# Altium footprint library Al_Cap.PcbLib: 10 footprints
Each footprint in its own frame and in the unit in brackets; x right, y up, seen from the top. Pads: shape width x height; smd on the part's side, far side on the other; paste and mask are expansions set on the pad; w line width, h text height; cw(c..) or ccw(c..) is an arc to the next point about the centre after c.
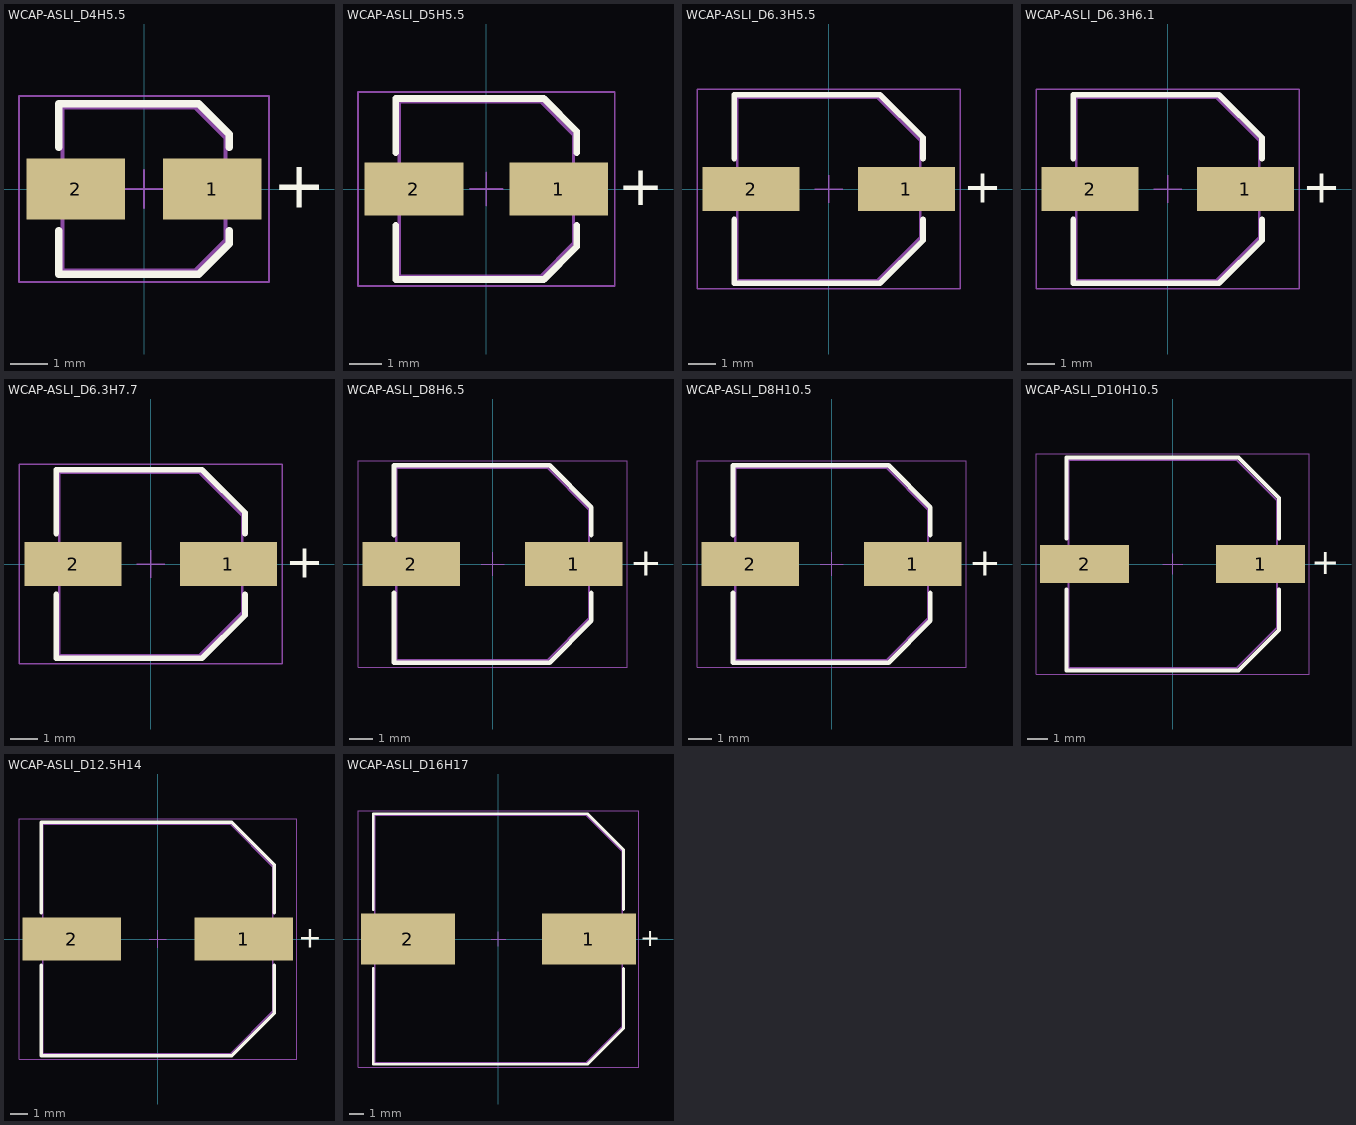
[diagram p0: the footprints below, top view; thin cyan lines are the x and y axes]

## WCAP-ASLI_D4H5.5 [mm] "Aluminium Electrolytic V-Chip SMT Capacitors, 4x5.5mm"
height 5.5
pads (2):
  rect 2.6x1.6 smd: 1(1.8,0) 2(-1.8,0)
Top Overlay:
  lines w0.2: -2.25,-1.1 -2.25,-2.25 1.45,-2.25 2.25,-1.45 2.25,-1.1 ; -2.25,1.1 -2.25,2.25 1.45,2.25 2.25,1.45 2.25,1.1
  text "+" at 3.4,-0.5 h1.22
Top Designator:
  text ".Designator" at -5.998,-0.4 h1.2
Top Component Outline:
  lines w0.1: -2.15,-2.15 1.35,-2.15 2.15,-1.35 2.15,1.35 1.35,2.15 -2.15,2.15 -2.15,-2.15
Top 3D Body:
  lines w0.1: -2.15,-2.15 1.35,-2.15 2.15,-1.35 2.15,1.35 1.35,2.15 -2.15,2.15 -2.15,-2.15
Top Courtyard:
  lines w0.05: -0.5,0 0.5,0 ; 0,-0.5 0,0.5 ; -3.3,-2.45 3.3,-2.45 3.3,2.45 -3.3,2.45 -3.3,-2.45
3D body "4x5.5x1.stp": height 5.5, standoff 0, extent -2.5,-2.15 2.5,2.15

## WCAP-ASLI_D5H5.5 [mm] "Aluminium Electrolytic V-Chip SMT Capacitors, 5x5.5mm"
height 5.5
pads (2):
  rect 3x1.6 smd: 1(2.2,0) 2(-2.2,0)
Top Overlay:
  lines w0.2: -2.75,-1.1 -2.75,-2.75 1.75,-2.75 2.75,-1.75 2.75,-1.1 ; -2.75,1.1 -2.75,2.75 1.75,2.75 2.75,1.75 2.75,1.1
  text "+" at 4,-0.5 h1.22
Top Designator:
  text ".Designator" at -7.498,-0.5 h1.5
Top Component Outline:
  lines w0.1: -2.65,-2.65 -2.65,2.65 1.65,2.65 2.65,1.65 2.65,-1.65 1.65,-2.65 -2.65,-2.65
Top 3D Body:
  lines w0.1: -2.65,-2.65 -2.65,2.65 1.65,2.65 2.65,1.65 2.65,-1.65 1.65,-2.65 -2.65,-2.65
Top Courtyard:
  lines w0.05: -0.5,0 0.5,0 ; 0,-0.5 0,0.5 ; -3.9,-2.95 3.9,-2.95 3.9,2.95 -3.9,2.95 -3.9,-2.95
3D body "5x5.5x1.4.stp": height 5.5, standoff 0, extent -3,-2.65 3,2.65

## WCAP-ASLI_D6.3H5.5 [mm] "Aluminium Electrolytic V-Chip SMT Capacitors, 6.3x5.5mm"
height 5.5
pads (2):
  rect 3.5x1.6 smd: 1(2.8,0) 2(-2.8,0)
Top Overlay:
  lines w0.2: -3.4,-1.1 -3.4,-3.4 1.85,-3.4 3.4,-1.85 3.4,-1.1 ; -3.4,1.1 -3.4,3.4 1.85,3.4 3.4,1.85 3.4,1.1
  text "+" at 4.85,-0.5 h1.22
Top Designator:
  text ".Designator" at -7.498,-0.5 h1.5
Top Component Outline:
  lines w0.1: -3.3,-3.3 1.75,-3.3 3.3,-1.75 3.3,1.75 1.75,3.3 -3.3,3.3 -3.3,-3.3
Top 3D Body:
  lines w0.1: -3.3,-3.3 1.75,-3.3 3.3,-1.75 3.3,1.75 1.75,3.3 -3.3,3.3 -3.3,-3.3
Top Courtyard:
  lines w0.05: -0.5,0 0.5,0 ; 0,-0.5 0,0.5 ; -4.75,-3.6 -4.75,3.6 4.75,3.6 4.75,-3.6 -4.75,-3.6
3D body "6.3x5.5x2.2.stp": height 5.5, standoff 0, extent -3.65,-3.3 3.65,3.3

## WCAP-ASLI_D6.3H6.1 [mm] "Aluminium Electrolytic V-Chip SMT Capacitors, 6.3x6.1mm"
height 6.1
pads (2):
  rect 3.5x1.6 smd: 1(2.8,0) 2(-2.8,0)
Top Overlay:
  lines w0.2: -3.4,-1.1 -3.4,-3.4 1.85,-3.4 3.4,-1.85 3.4,-1.1 ; -3.4,1.1 -3.4,3.4 1.85,3.4 3.4,1.85 3.4,1.1
  text "+" at 4.85,-0.5 h1.22
Top Designator:
  text ".Designator" at -7.498,-0.5 h1.5
Top Component Outline:
  lines w0.1: -3.3,-3.3 -3.3,3.3 1.75,3.3 3.3,1.75 3.3,-1.75 1.75,-3.3 -3.3,-3.3
Top 3D Body:
  lines w0.1: -3.3,-3.3 -3.3,3.3 1.75,3.3 3.3,1.75 3.3,-1.75 1.75,-3.3 -3.3,-3.3
Top Courtyard:
  lines w0.05: -0.5,0 0.5,0 ; 0,-0.5 0,0.5 ; -4.75,-3.6 4.75,-3.6 4.75,3.6 -4.75,3.6 -4.75,-3.6
3D body "6.3x6.1x2.2.stp": height 6.1, standoff 0, extent -3.65,-3.3 3.65,3.3

## WCAP-ASLI_D6.3H7.7 [mm] "Aluminium Electrolytic V-Chip SMT Capacitors, 6.3x7.7mm"
height 7.7
pads (2):
  rect 3.5x1.6 smd: 1(2.8,0) 2(-2.8,0)
Top Overlay:
  lines w0.2: -3.4,-1.1 -3.4,-3.4 1.85,-3.4 3.4,-1.85 3.4,-1.1 ; -3.4,1.1 -3.4,3.4 1.85,3.4 3.4,1.85 3.4,1.1
  text "+" at 4.85,-0.5 h1.22
Top Designator:
  text ".Designator" at -7.498,-0.5 h1.5
Top Component Outline:
  lines w0.1: -3.3,-3.3 -3.3,3.3 1.75,3.3 3.3,1.75 3.3,-1.75 1.75,-3.3 -3.3,-3.3
Top 3D Body:
  lines w0.1: -3.3,-3.3 -3.3,3.3 1.75,3.3 3.3,1.75 3.3,-1.75 1.75,-3.3 -3.3,-3.3
Top Courtyard:
  lines w0.05: -0.5,0 0.5,0 ; 0,-0.5 0,0.5 ; -4.75,-3.6 4.75,-3.6 4.75,3.6 -4.75,3.6 -4.75,-3.6
3D body "6.3x7.7x2.2.stp": height 7.7, standoff 0, extent -3.65,-3.3 3.65,3.3

## WCAP-ASLI_D8H6.5 [mm] "Aluminium Electrolytic V-Chip SMT Capacitors, 8x6.5mm"
height 6.5
pads (2):
  rect 4.2x1.9 smd: 1(3.5,0) 2(-3.5,0)
Top Overlay:
  lines w0.2: -4.25,-1.25 -4.25,-4.25 2.45,-4.25 4.25,-2.45 4.25,-1.25 ; -4.25,1.25 -4.25,4.25 2.45,4.25 4.25,2.45 4.25,1.25
  text "+" at 5.9,-0.5 h1.22
Top Designator:
  text ".Designator" at -7.498,-0.5 h1.5
Top Component Outline:
  lines w0.1: -4.15,-4.15 2.35,-4.15 4.15,-2.35 4.15,2.35 2.35,4.15 -4.15,4.15 -4.15,-4.15
Top 3D Body:
  lines w0.1: -4.15,-4.15 2.35,-4.15 4.15,-2.35 4.15,2.35 2.35,4.15 -4.15,4.15 -4.15,-4.15
Top Courtyard:
  lines w0.05: -0.5,0 0.5,0 ; 0,-0.5 0,0.5 ; -5.8,-4.45 -5.8,4.45 5.8,4.45 5.8,-4.45 -5.8,-4.45
3D body "8x6.5x2.3.stp": height 6.45, standoff -0.05, extent -4.5,-4.15 4.5,4.15

## WCAP-ASLI_D8H10.5 [mm] "Aluminium Electrolytic V-Chip SMT Capacitors, 8x10.5mm"
height 10.5
pads (2):
  rect 4.2x1.9 smd: 1(3.5,0) 2(-3.5,0)
Top Overlay:
  lines w0.2: -4.25,-1.25 -4.25,-4.25 2.45,-4.25 4.25,-2.45 4.25,-1.25 ; -4.25,1.25 -4.25,4.25 2.45,4.25 4.25,2.45 4.25,1.25
  text "+" at 5.9,-0.5 h1.22
Top Designator:
  text ".Designator" at -7.498,-0.5 h1.5
Top Component Outline:
  lines w0.1: -4.15,-4.15 2.35,-4.15 4.15,-2.35 4.15,2.35 2.35,4.15 -4.15,4.15 -4.15,-4.15
Top 3D Body:
  lines w0.1: -4.15,-4.15 2.35,-4.15 4.15,-2.35 4.15,2.35 2.35,4.15 -4.15,4.15 -4.15,-4.15
Top Courtyard:
  lines w0.05: -0.5,0 0.5,0 ; 0,-0.5 0,0.5 ; -5.8,-4.45 -5.8,4.45 5.8,4.45 5.8,-4.45 -5.8,-4.45
3D body "8x10.5x3.1.stp": height 10.5, standoff 0, extent -4.5,-4.15 4.5,4.15

## WCAP-ASLI_D10H10.5 [mm] "Aluminium Electrolytic V-Chip SMT Capacitors, 10x10.5mm"
height 10.5
pads (2):
  rect 4.4x1.9 smd: 1(4.35,0) 2(-4.35,0)
Top Overlay:
  lines w0.2: -5.25,-1.25 -5.25,-5.25 3.25,-5.25 5.25,-3.25 5.25,-1.25 ; -5.25,1.25 -5.25,5.25 3.25,5.25 5.25,3.25 5.25,1.25
  text "+" at 6.85,-0.5 h1.22
Top Designator:
  text ".Designator" at -7.498,-0.5 h1.5
Top Component Outline:
  lines w0.1: -5.15,-5.15 3.15,-5.15 5.15,-3.15 5.15,3.15 3.15,5.15 -5.15,5.15 -5.15,-5.15
Top 3D Body:
  lines w0.1: -5.15,-5.15 3.15,-5.15 5.15,-3.15 5.15,3.15 3.15,5.15 -5.15,5.15 -5.15,-5.15
Top Courtyard:
  lines w0.05: -0.5,0 0.5,0 ; 0,-0.5 0,0.5 ; -6.75,-5.45 -6.75,5.45 6.75,5.45 6.75,-5.45 -6.75,-5.45
3D body "10x10.5x4.5.stp": height 10.5, standoff 0, extent -5.5,-5.15 5.5,5.15

## WCAP-ASLI_D12.5H14 [mm] "Aluminium Electrolytic V-Chip SMT Capacitors, 12.5x14mm"
height 14
pads (2):
  rect 5.8x2.5 smd: 1(5.05,0) 2(-5.05,0)
Top Overlay:
  lines w0.2: -6.85,-1.55 -6.85,-6.85 4.35,-6.85 6.85,-4.35 6.85,-1.55 ; -6.85,1.55 -6.85,6.85 4.35,6.85 6.85,4.35 6.85,1.55
  text "+" at 8.25,-0.5 h1.22
Top Designator:
  text ".Designator" at -7.498,-0.5 h1.5
Top Component Outline:
  lines w0.1: -6.75,-6.75 4.25,-6.75 6.75,-4.25 6.75,4.25 4.25,6.75 -6.75,6.75 -6.75,-6.75
Top 3D Body:
  lines w0.1: -6.75,-6.75 4.25,-6.75 6.75,-4.25 6.75,4.25 4.25,6.75 -6.75,6.75 -6.75,-6.75
Top Courtyard:
  lines w0.05: -0.5,0 0.5,0 ; 0,-0.5 0,0.5 ; -8.15,-7.05 -8.15,7.05 8.15,7.05 8.15,-7.05 -8.15,-7.05
3D body "12.5x14x4.5.stp": height 14, standoff 0, extent -7.1,-6.725 7.1,6.725

## WCAP-ASLI_D16H17 [mm] "Aluminium Electrolytic V-Chip SMT Capacitors, 16x17mm"
height 17
pads (2):
  rect 6.5x3.5 smd: 1(6.25,0) 2(-6.25,0)
Top Overlay:
  lines w0.2: -8.65,-2.05 -8.65,-8.65 6.15,-8.65 8.65,-6.15 8.65,-2.05 ; -8.65,2.05 -8.65,8.65 6.15,8.65 8.65,6.15 8.65,2.05
  text "+" at 9.8,-0.5 h1.22
Top Designator:
  text ".Designator" at -7.498,-0.5 h1.5
Top Component Outline:
  lines w0.1: -8.55,-8.55 6.05,-8.55 8.55,-6.05 8.55,6.05 6.05,8.55 -8.55,8.55 -8.55,-8.55
Top 3D Body:
  lines w0.1: -8.55,-8.55 6.05,-8.55 8.55,-6.05 8.55,6.05 6.05,8.55 -8.55,8.55 -8.55,-8.55
Top Courtyard:
  lines w0.05: -0.5,0 0.5,0 ; 0,-0.5 0,0.5 ; -9.7,-8.85 -9.7,8.85 9.7,8.85 9.7,-8.85 -9.7,-8.85
3D body "16x17x7_new.stp": height 17, standoff 0, extent -9.15,-8.5 9.15,8.5